# EAGLE library part A3909 (library we-chip)
Allegro A3909 Dual Full Bridge Motor Driver (4-18V)
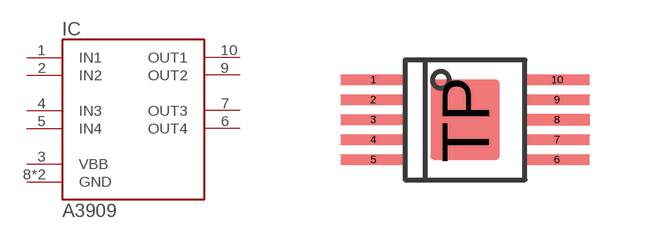
[diagram p39: symbol with the pads of MSOP10-PAD; footprint MSOP10-PAD]

Designator prefix IC

## A3909-LY  [MSOP10-PAD]
1  IN1
2  IN2
3  VBB  pwr
4  IN3
5  IN4
6  OUT4  pas
7  OUT3  pas
8  GND  pwr
9  OUT2  pas
10  OUT1  pas
TP  GND  pwr

## Footprint MSOP10-PAD (pad centres in mm)
smd 1.65 x 0.28: 1 -2.3,1; 2 -2.3,0.5; 3 -2.3,0; 4 -2.3,-0.5; 5 -2.3,-1; 6 2.3,-1; 7 2.3,-0.5; 8 2.3,0; 9 2.3,0.5; 10 2.3,1
smd 1.73 x 2: TP 0,0